# Altium integrated library Linear Technology Power Management System Supervisor, Monitor and Control.IntLib: 1611 symbols (part 72 of 100)
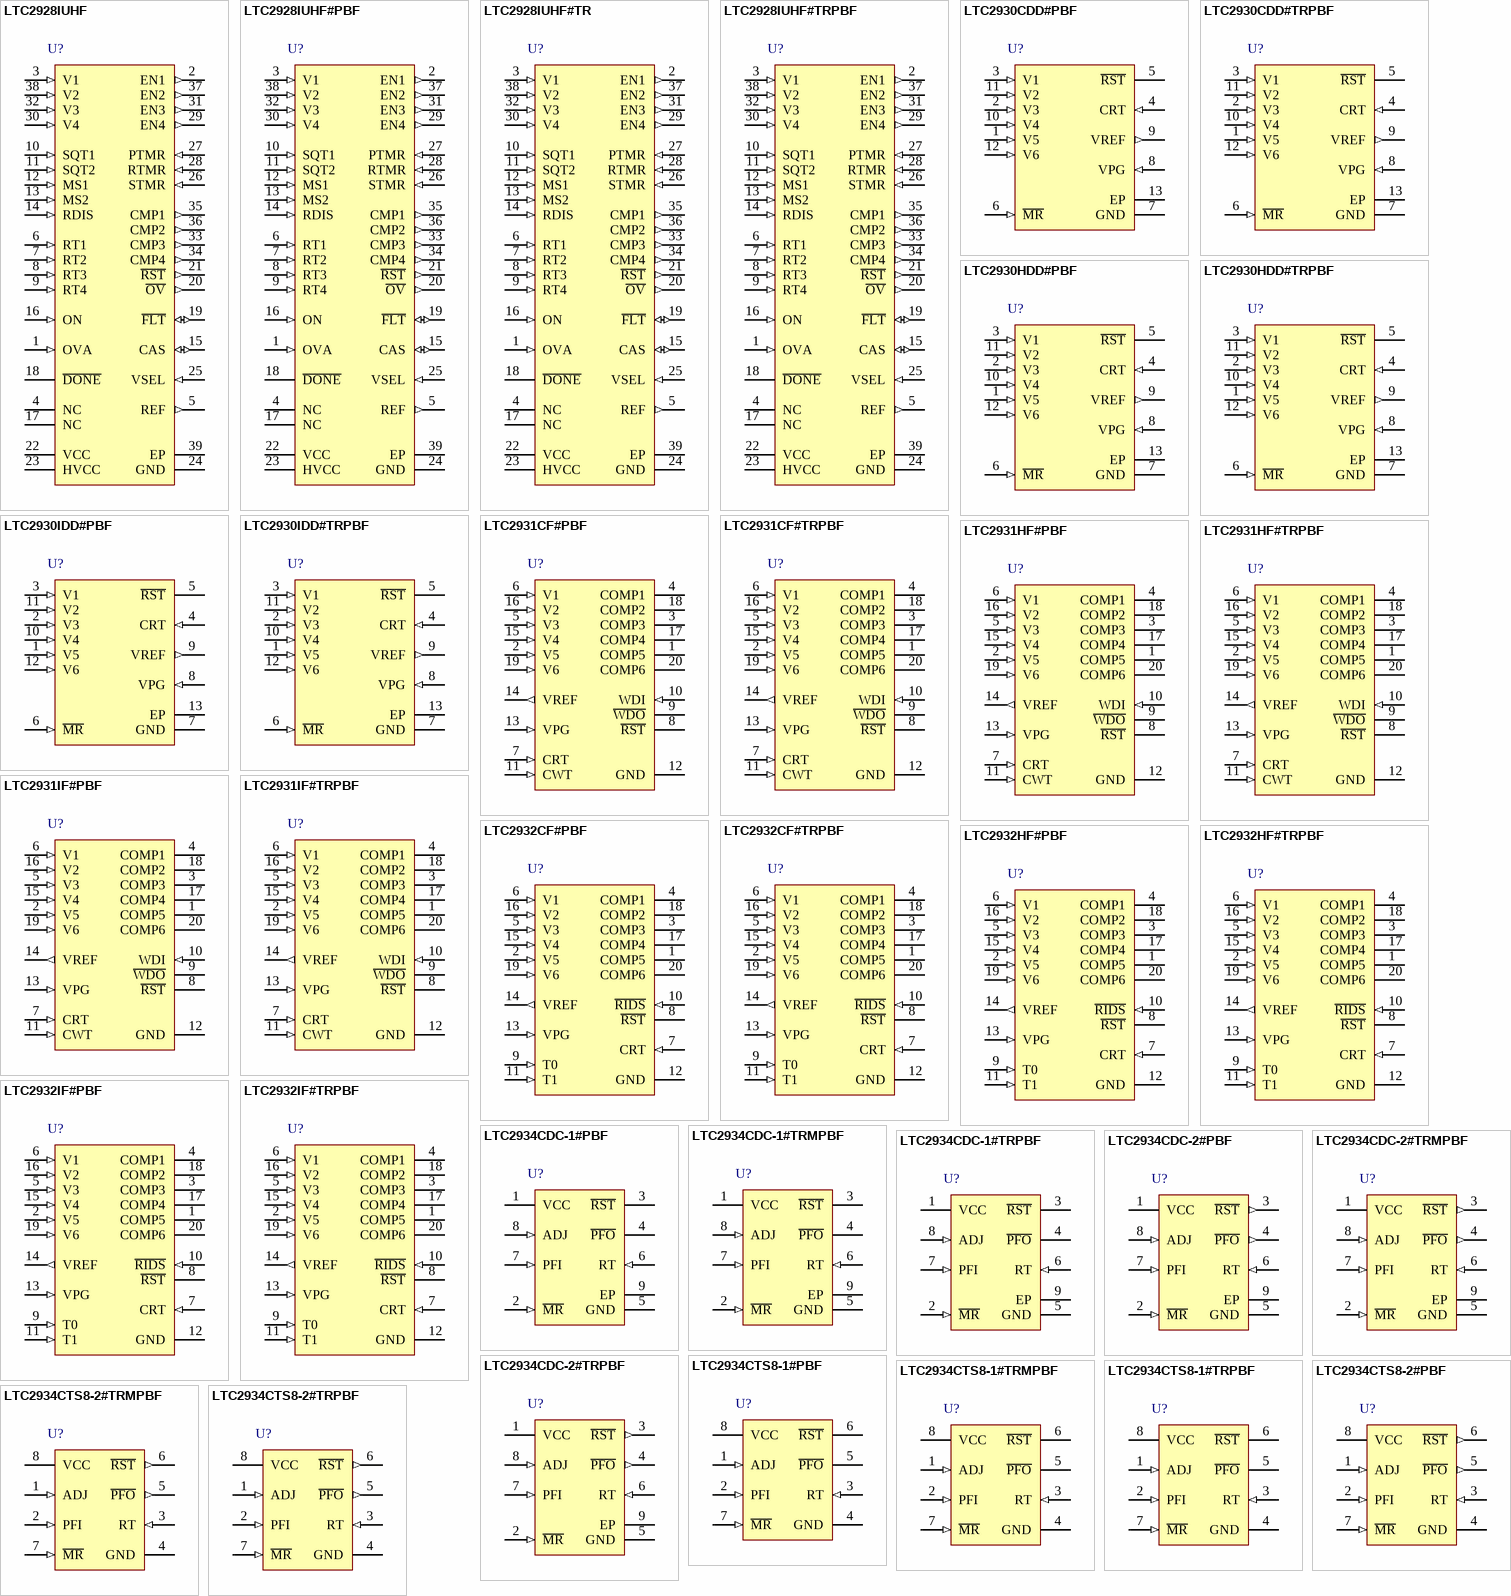
[diagram p116: symbols LTC2928IUHF to LTC2934CTS8-2#TRPBF]

## LTC2928IUHF#TRPBF
designator U?
Multichannel Power Supply Sequencer and Supervisor, 38-pin QFN (UHF-38), -40 to 85 degC, Pb-Free, Tape and Reel; Manufacturer: Linear Technology; PartNumber: LTC2928IUHF#TRPBF; Number of Supplies(#): 4; PackageVersion: Rev. C, 06/2010; PackageReference: UHF-38; PackageDescription: 38-Pin Plastic QFN, Body 7 x 5 mm, Pitch 0.5 mm; Supplier 1: Digi-Key; Supplier Part Number 1: LTC2928IUHF#TRPBF-ND; Supplier 2: Newark; Supplier Part Number 2: 56M7168; Packing: Tape and Reel; RoHS: TRUE; Mounting Technology: Surface Mount; Code_JEDEC: MO-220; ComponentLink1Description: Manufacturer URL; ComponentLink1URL: http://www.linear.com/; ComponentLink2Description: Datasheet; ComponentLink2URL: http://cds.linear.com/docs/en/datasheet/2928f.pdf; ComponentLink3Description: Package Specification; ComponentLink3URL: http://cds.linear.com/docs/en/packaging/QFN_38_05-08-1701.pdf
footprint LT-UHF-38_N (QFN, 38-Leads, Body 7.1x5.1mm, Pitch 0.5mm, Thermal Pad 3.15x5.15mm, IPC Medium Density)
footprint LT-UHF-38_L (QFN, 38-Leads, Body 7.1x5.1mm, Pitch 0.5mm, Thermal Pad 3.15x5.15mm, IPC High Density)
footprint LT-UHF-38_M (QFN, 38-Leads, Body 7.1x5.1mm, Pitch 0.5mm, Thermal Pad 3.15x5.15mm, IPC Low Density)
pins: 1 OVA (in) "Over Voltage Adjust Input. After configuring the undervoltage thresholds, bias this input to set the overvoltage threshold for all positive supplies. Leave the pin floating to set an overvoltage threshold approximately 32% (See Datasheet)", 2 EN1 (out) "Enable Output. Connect these outputs to a power supply shutdown input or an external N-channel MOSFET gate for the supply to be sequenced. When enabled, each output is connected to an internal charge pumped supply (nominally (See Datasheet)", 3 V1 (in) "Voltage Monitor Input. Connect these high impedance inputs to external resistive dividers between each monitored power supply and ground (or REF for negative supplies monitored on V1). See Applications Information for (See Datasheet)", 4 NC "No Connect. Unconnected pins.", 5 REF (out) "Reference Output. REF is used to offset negative supplies connected through resistance to V1. The reference will move during sequence-up and sequence-down operation to effect the selected thresholds. The buffered reference (See Datasheet)", 6 RT1 (in) "Resistive Time Position Configuration Input. Place a single resistor from VCC to each input to select one of eight time positions in which to turn-on or turn-off each enable output (see Application Information for RT table). (See Datasheet)", 7 RT2 (in) "Resistive Time Position Configuration Input. Place a single resistor from VCC to each input to select one of eight time positions in which to turn-on or turn-off each enable output (see Application Information for RT table). (See Datasheet)", 8 RT3 (in) "Resistive Time Position Configuration Input. Place a single resistor from VCC to each input to select one of eight time positions in which to turn-on or turn-off each enable output (see Application Information for RT table). (See Datasheet)", 9 RT4 (in) "Resistive Time Position Configuration Input. Place a single resistor from VCC to each input to select one of eight time positions in which to turn-on or turn-off each enable output (see Application Information for RT table). (See Datasheet)", 10 SQT1 (in) "Sequencing Threshold Three State Configuration Input. Select sequencing thresholds as a percentage of the 0.5V supply monitor threshold for positive supplies and as a percentage of REF for negative supplies. For (See Datasheet)", 11 SQT2 (in) "Sequencing Threshold Three State Configuration Input. Select sequencing thresholds as a percentage of the 0.5V supply monitor threshold for positive supplies and as a percentage of REF for negative supplies. For (See Datasheet)", 12 MS1 (in) "Master/Slave Three State Configuration Input. Depending on the application, select each LTC2928 as a master or slave part and whether or not the part is designated as the first part in a cascade application. The (See Datasheet)", 13 MS2 (in) "Master/Slave Three State Configuration Input. Depending on the application, select each LTC2928 as a master or slave part and whether or not the part is designated as the first part in a cascade application. The (See Datasheet)", 14 RDIS (in) "Reset Disable Three State Input. Typically used for supply margining applications. Pull RDIS high or low to force R\S\T\ high. Leave the RDIS input open to allow R\S\T\ to operate normally.", 15 CAS (io) "Cascade Input/Output. Connect the cascade pin between a master and one or more slave devices to increase the number of supplies that can be sequenced per time position. See Applications Information for details. Do not add (See Datasheet)", 16 ON (in) "Sequence Up/Down Input. A voltage transition above 1V starts the sequence-up phase. A voltage transition below 0.97V starts the sequence-down phase. An ON transition applied during a sequence-up (or down) phase is treated as (See Datasheet)", 17 NC "No Connect. Unconnected pins.", 18 ~{DONE} (hiz) "Sequence Done Output. The last (or only) LTC2928 must have D\O\N\E\ pulled high with an external resistor to VCC (3.3k 5% recommended). The LTC2928 floats D\O\N\E\ until the completion of a sequence-up operation when it is (See Datasheet)", 19 ~{FLT} (io) "Fault Input/Output. Pull FLT high with an external resistor (10k recommended). The LTC2928 will pull FLT low if an internal fault condition is detected (see Applications Information for details). An external signal such as (See Datasheet)", 20 ~{OV} (out) "Overvoltage Output. Pulls low when any positive supply exceeds its configured overvoltage threshold. O\V\ remains low until all positive supplies have remained below the overvoltage threshold for a time equal to the (See Datasheet)", 21 ~{RST} (out) "Reset Output. If any supply is below its undervoltage threshold, R\S\T\ pulls low. R\S\T\ pulls high after all supplies are above their undervoltage threshold for the configured delay time (configure delay time using the (See Datasheet)", 22 VCC (power) "Power Supply Input/Output. All internal circuits are powered from VCC. Bypass VCC with at least 0.1uF to ground in close proximity to this pin (1uF minimum when using HVCC).", 23 HVCC (power) "High Voltage (7.2V to 16.5V) Power Supply Input. Bypass HVCC with at least 0.1uF to ground in close proximity to this pin. The internal HVCC regulator provides a regulated 3.3V to VCC. VCC may be used to power external (See Datasheet)", 24 GND (power) "Device ground.", 25 VSEL (in) "Voltage Monitor Select Input. Tie to ground to select four positive inputs. Tie to VCC for three positive and one negative adjustable input. Negative supplies are monitored on the V1 input. See Applications Information for (See Datasheet)", 26 STMR (in) "Sequence Timer. Attach an external capacitor to ground to set the adjacent time-position delay between sequenced supplies. For supplies in adjacent time positions, this delay resides between the previous supply crossing its (See Datasheet)", 27 PTMR (in) "Power Good Timer. Attach an external capacitor to ground to set the maximum time allowed for all supplies to reach their configured undervoltage threshold during sequence-up phase (or all supplies below their sequence down (See Datasheet)", 28 RTMR (in) "Reset Timer. Attach an external capacitor to ground to set a reset delay time of 4000ms/uF. Floating RTMR generates a minimum delay of approximately 50us. A 0.047uF capacitor will generate a 190ms delay time.", 29 EN4 (out) "Enable Output. Connect these outputs to a power supply shutdown input or an external N-channel MOSFET gate for the supply to be sequenced. When enabled, each output is connected to an internal charge pumped supply (nominally (See Datasheet)", 30 V4 (in) "Voltage Monitor Input. Connect these high impedance inputs to external resistive dividers between each monitored power supply and ground (or REF for negative supplies monitored on V1). See Applications Information for (See Datasheet)", 31 EN3 (out) "Enable Output. Connect these outputs to a power supply shutdown input or an external N-channel MOSFET gate for the supply to be sequenced. When enabled, each output is connected to an internal charge pumped supply (nominally (See Datasheet)", 32 V3 (in) "Voltage Monitor Input. Connect these high impedance inputs to external resistive dividers between each monitored power supply and ground (or REF for negative supplies monitored on V1). See Applications Information for (See Datasheet)", 33 CMP3 (out) "Comparator and/or Fault Status Output. The CMP outputs have a weak internal pull-up to VCC and may be pulled above VCC using an external pull-up. During sequence-up or sequence-down operation, all comparator outputs are low. (See Datasheet)", 34 CMP4 (out) "Comparator and/or Fault Status Output. The CMP outputs have a weak internal pull-up to VCC and may be pulled above VCC using an external pull-up. During sequence-up or sequence-down operation, all comparator outputs are low. (See Datasheet)", 35 CMP1 (out) "Comparator and/or Fault Status Output. The CMP outputs have a weak internal pull-up to VCC and may be pulled above VCC using an external pull-up. During sequence-up or sequence-down operation, all comparator outputs are low. (See Datasheet)", 36 CMP2 (out) "Comparator and/or Fault Status Output. The CMP outputs have a weak internal pull-up to VCC and may be pulled above VCC using an external pull-up. During sequence-up or sequence-down operation, all comparator outputs are low. (See Datasheet)", 37 EN2 (out) "Enable Output. Connect these outputs to a power supply shutdown input or an external N-channel MOSFET gate for the supply to be sequenced. When enabled, each output is connected to an internal charge pumped supply (nominally (See Datasheet)", 38 V2 (in) "Voltage Monitor Input. Connect these high impedance inputs to external resistive dividers between each monitored power supply and ground (or REF for negative supplies monitored on V1). See Applications Information for (See Datasheet)", 39 EP (power) "Exposed pad may be left floating or connected to device ground."

## LTC2930CDD#PBF
designator U?
Configurable Six Supply Monitor with Adjustable Reset Timer and Supply Tolerance, 12-pin SON (DD-12), 0 to 70 degC, Pb-Free; Manufacturer: Linear Technology; PartNumber: LTC2930CDD#PBF; Number of Supplies(#): 6; DatasheetVersion: Rev. A; PackageVersion: Rev. A, 06/2010; PackageReference: DD-12; PackageDescription: 12-Pin Plastic DFN, Body 3 x 3 mm, Pitch 0.45 mm; Supplier 1: Digi-Key; Supplier Part Number 1: LTC2930CDD#PBF-ND; Supplier 2: Farnell; Supplier Part Number 2: 2295444; Supplier 3: Newark; Supplier Part Number 3: 79M3531; RoHS: TRUE; Mounting Technology: Surface Mount; ComponentLink1Description: Manufacturer URL; ComponentLink1URL: http://www.linear.com/; ComponentLink2Description: Datasheet; ComponentLink2URL: http://cds.linear.com/docs/en/datasheet/2930fa.pdf; ComponentLink3Description: Package Specification; ComponentLink3URL: http://cds.linear.com/docs/en/packaging/DFN_12_05-08-1725.pdf
footprint LT-DD-12_V (SON, 12-Leads, Body 3x3mm, Pitch 0.45mm, Thermal Pad 2.38x1.65mm)
pins: 1 V5 (in) "Adjustable Voltage Input 5. High impedance comparator input with 0.5V typical threshold. See Applications Information for details. Tie to V1 if unused.", 2 V3 (in) "Voltage Input 3. Select from 2.5V, 1.8V, 1.5V, or ADJ. See Applications Information for details. Tie to V1 if unused.", 3 V1 (in) "Voltage Input 1. Select from 5V or 3.3V. See Applications Information for details. The greater of V1 or V2 is also VCC for the device. Bypass this pin to ground with a 0.1uF (or greater) capacitor.", 4 CRT (in) "Reset Timeout Capacitor. Attach an external capacitor (CRT) to GND to set a reset timeout of 2ms/nF. Leaving the pin open generates a minimum delay of approximately 25us. A 47nF capacitor generates a 94ms reset delay time.", 5 ~{RST} (oc) "Reset Output. Logic output with weak 6uA pull-up to V2. Pulls low when any voltage input is below the reset threshold and held low for the configured delay time after all voltage inputs are above threshold. Use an external (See Datasheet)", 6 ~{MR} (in) "Manual Reset Input. A logic low on this pin pulls R\S\T\ low. When the M\R\ pin returns high, R\S\T\ returns high after the configured reset timeout if all six voltage inputs are above threshold. A weak internal pull-up (See Datasheet)", 7 GND (power) "Ground.", 8 VPG (in) "Threshold Select Input. Connect to an external 1% resistive divider between VREF and GND to select 1 of 16 combinations and/or +/-adjustable voltage thresholds (See Table 1). Do not add capacitance on the VPG pin.", 9 VREF (out) "Buffered Reference Voltage Output. A 1.210V nominal reference used for the mode selection voltage (VPG) and for the offset of negative adjustable applications. The buffered reference can source and sink up to 1mA. The (See Datasheet)", 10 V4 (in) "Voltage Input 4. Select from 1.8V, 1.5V, ADJ or -ADJ. See Applications Information for details. Tie to V1 if unused.", 11 V2 (in) "Voltage Input 2. Select from 3.3V, 3V or 2.5V. See Applications Information for details. The greater of V1, V2 is also VCC for the device. Bypass this pin to ground with a 0.1uF (or greater) capacitor. R\S\T\ is weakly (See Datasheet)", 12 V6 (in) "Adjustable Voltage Input 6. High impedance comparator input with 0.5V typical threshold. See Applications Information for details. Tie to V1 if unused.", 13 EP (power) "Exposed pad may be left open or connected to device ground."

## LTC2930CDD#TRPBF
designator U?
Configurable Six Supply Monitor with Adjustable Reset Timer and Supply Tolerance, 12-pin SON (DD-12), 0 to 70 degC, Pb-Free, Tape and Reel; Manufacturer: Linear Technology; PartNumber: LTC2930CDD#TRPBF; Number of Supplies(#): 6; DatasheetVersion: Rev. A; PackageVersion: Rev. A, 06/2010; PackageReference: DD-12; PackageDescription: 12-Pin Plastic DFN, Body 3 x 3 mm, Pitch 0.45 mm; Supplier 1: Digi-Key; Supplier Part Number 1: LTC2930CDD#TRPBF-ND; Packing: Tape and Reel; RoHS: TRUE; Mounting Technology: Surface Mount; ComponentLink1Description: Manufacturer URL; ComponentLink1URL: http://www.linear.com/; ComponentLink2Description: Datasheet; ComponentLink2URL: http://cds.linear.com/docs/en/datasheet/2930fa.pdf; ComponentLink3Description: Package Specification; ComponentLink3URL: http://cds.linear.com/docs/en/packaging/DFN_12_05-08-1725.pdf
footprint LT-DD-12_V (SON, 12-Leads, Body 3x3mm, Pitch 0.45mm, Thermal Pad 2.38x1.65mm)
pins: 1 V5 (in) "Adjustable Voltage Input 5. High impedance comparator input with 0.5V typical threshold. See Applications Information for details. Tie to V1 if unused.", 2 V3 (in) "Voltage Input 3. Select from 2.5V, 1.8V, 1.5V, or ADJ. See Applications Information for details. Tie to V1 if unused.", 3 V1 (in) "Voltage Input 1. Select from 5V or 3.3V. See Applications Information for details. The greater of V1 or V2 is also VCC for the device. Bypass this pin to ground with a 0.1uF (or greater) capacitor.", 4 CRT (in) "Reset Timeout Capacitor. Attach an external capacitor (CRT) to GND to set a reset timeout of 2ms/nF. Leaving the pin open generates a minimum delay of approximately 25us. A 47nF capacitor generates a 94ms reset delay time.", 5 ~{RST} (oc) "Reset Output. Logic output with weak 6uA pull-up to V2. Pulls low when any voltage input is below the reset threshold and held low for the configured delay time after all voltage inputs are above threshold. Use an external (See Datasheet)", 6 ~{MR} (in) "Manual Reset Input. A logic low on this pin pulls R\S\T\ low. When the M\R\ pin returns high, R\S\T\ returns high after the configured reset timeout if all six voltage inputs are above threshold. A weak internal pull-up (See Datasheet)", 7 GND (power) "Ground.", 8 VPG (in) "Threshold Select Input. Connect to an external 1% resistive divider between VREF and GND to select 1 of 16 combinations and/or +/-adjustable voltage thresholds (See Table 1). Do not add capacitance on the VPG pin.", 9 VREF (out) "Buffered Reference Voltage Output. A 1.210V nominal reference used for the mode selection voltage (VPG) and for the offset of negative adjustable applications. The buffered reference can source and sink up to 1mA. The (See Datasheet)", 10 V4 (in) "Voltage Input 4. Select from 1.8V, 1.5V, ADJ or -ADJ. See Applications Information for details. Tie to V1 if unused.", 11 V2 (in) "Voltage Input 2. Select from 3.3V, 3V or 2.5V. See Applications Information for details. The greater of V1, V2 is also VCC for the device. Bypass this pin to ground with a 0.1uF (or greater) capacitor. R\S\T\ is weakly (See Datasheet)", 12 V6 (in) "Adjustable Voltage Input 6. High impedance comparator input with 0.5V typical threshold. See Applications Information for details. Tie to V1 if unused.", 13 EP (power) "Exposed pad may be left open or connected to device ground."

## LTC2930HDD#PBF
designator U?
Configurable Six Supply Monitor with Adjustable Reset Timer and Supply Tolerance, 12-pin SON (DD-12), -40 to 125 degC, Pb-Free; Manufacturer: Linear Technology; PartNumber: LTC2930HDD#PBF; Number of Supplies(#): 6; DatasheetVersion: Rev. A; PackageVersion: Rev. A, 06/2010; PackageReference: DD-12; PackageDescription: 12-Pin Plastic DFN, Body 3 x 3 mm, Pitch 0.45 mm; Supplier 1: Digi-Key; Supplier Part Number 1: LTC2930HDD#PBF-ND; Supplier 2: Farnell; Supplier Part Number 2: 2295445; Supplier 3: Newark; Supplier Part Number 3: 79M3533; RoHS: TRUE; Mounting Technology: Surface Mount; ComponentLink1Description: Manufacturer URL; ComponentLink1URL: http://www.linear.com/; ComponentLink2Description: Datasheet; ComponentLink2URL: http://cds.linear.com/docs/en/datasheet/2930fa.pdf; ComponentLink3Description: Package Specification; ComponentLink3URL: http://cds.linear.com/docs/en/packaging/DFN_12_05-08-1725.pdf
footprint LT-DD-12_V (SON, 12-Leads, Body 3x3mm, Pitch 0.45mm, Thermal Pad 2.38x1.65mm)
pins: 1 V5 (in) "Adjustable Voltage Input 5. High impedance comparator input with 0.5V typical threshold. See Applications Information for details. Tie to V1 if unused.", 2 V3 (in) "Voltage Input 3. Select from 2.5V, 1.8V, 1.5V, or ADJ. See Applications Information for details. Tie to V1 if unused.", 3 V1 (in) "Voltage Input 1. Select from 5V or 3.3V. See Applications Information for details. The greater of V1 or V2 is also VCC for the device. Bypass this pin to ground with a 0.1uF (or greater) capacitor.", 4 CRT (in) "Reset Timeout Capacitor. Attach an external capacitor (CRT) to GND to set a reset timeout of 2ms/nF. Leaving the pin open generates a minimum delay of approximately 25us. A 47nF capacitor generates a 94ms reset delay time.", 5 ~{RST} (oc) "Reset Output. Logic output with weak 6uA pull-up to V2. Pulls low when any voltage input is below the reset threshold and held low for the configured delay time after all voltage inputs are above threshold. Use an external (See Datasheet)", 6 ~{MR} (in) "Manual Reset Input. A logic low on this pin pulls R\S\T\ low. When the M\R\ pin returns high, R\S\T\ returns high after the configured reset timeout if all six voltage inputs are above threshold. A weak internal pull-up (See Datasheet)", 7 GND (power) "Ground.", 8 VPG (in) "Threshold Select Input. Connect to an external 1% resistive divider between VREF and GND to select 1 of 16 combinations and/or +/-adjustable voltage thresholds (See Table 1). Do not add capacitance on the VPG pin.", 9 VREF (out) "Buffered Reference Voltage Output. A 1.210V nominal reference used for the mode selection voltage (VPG) and for the offset of negative adjustable applications. The buffered reference can source and sink up to 1mA. The (See Datasheet)", 10 V4 (in) "Voltage Input 4. Select from 1.8V, 1.5V, ADJ or -ADJ. See Applications Information for details. Tie to V1 if unused.", 11 V2 (in) "Voltage Input 2. Select from 3.3V, 3V or 2.5V. See Applications Information for details. The greater of V1, V2 is also VCC for the device. Bypass this pin to ground with a 0.1uF (or greater) capacitor. R\S\T\ is weakly (See Datasheet)", 12 V6 (in) "Adjustable Voltage Input 6. High impedance comparator input with 0.5V typical threshold. See Applications Information for details. Tie to V1 if unused.", 13 EP (power) "Exposed pad may be left open or connected to device ground."

## LTC2930HDD#TRPBF
designator U?
Configurable Six Supply Monitor with Adjustable Reset Timer and Supply Tolerance, 12-pin SON (DD-12), -40 to 125 degC, Pb-Free, Tape and Reel; Manufacturer: Linear Technology; PartNumber: LTC2930HDD#TRPBF; Number of Supplies(#): 6; DatasheetVersion: Rev. A; PackageVersion: Rev. A, 06/2010; PackageReference: DD-12; PackageDescription: 12-Pin Plastic DFN, Body 3 x 3 mm, Pitch 0.45 mm; Supplier 1: Digi-Key; Supplier Part Number 1: LTC2930HDD#TRPBF-ND; Packing: Tape and Reel; RoHS: TRUE; Mounting Technology: Surface Mount; ComponentLink1Description: Manufacturer URL; ComponentLink1URL: http://www.linear.com/; ComponentLink2Description: Datasheet; ComponentLink2URL: http://cds.linear.com/docs/en/datasheet/2930fa.pdf; ComponentLink3Description: Package Specification; ComponentLink3URL: http://cds.linear.com/docs/en/packaging/DFN_12_05-08-1725.pdf
footprint LT-DD-12_V (SON, 12-Leads, Body 3x3mm, Pitch 0.45mm, Thermal Pad 2.38x1.65mm)
pins: 1 V5 (in) "Adjustable Voltage Input 5. High impedance comparator input with 0.5V typical threshold. See Applications Information for details. Tie to V1 if unused.", 2 V3 (in) "Voltage Input 3. Select from 2.5V, 1.8V, 1.5V, or ADJ. See Applications Information for details. Tie to V1 if unused.", 3 V1 (in) "Voltage Input 1. Select from 5V or 3.3V. See Applications Information for details. The greater of V1 or V2 is also VCC for the device. Bypass this pin to ground with a 0.1uF (or greater) capacitor.", 4 CRT (in) "Reset Timeout Capacitor. Attach an external capacitor (CRT) to GND to set a reset timeout of 2ms/nF. Leaving the pin open generates a minimum delay of approximately 25us. A 47nF capacitor generates a 94ms reset delay time.", 5 ~{RST} (oc) "Reset Output. Logic output with weak 6uA pull-up to V2. Pulls low when any voltage input is below the reset threshold and held low for the configured delay time after all voltage inputs are above threshold. Use an external (See Datasheet)", 6 ~{MR} (in) "Manual Reset Input. A logic low on this pin pulls R\S\T\ low. When the M\R\ pin returns high, R\S\T\ returns high after the configured reset timeout if all six voltage inputs are above threshold. A weak internal pull-up (See Datasheet)", 7 GND (power) "Ground.", 8 VPG (in) "Threshold Select Input. Connect to an external 1% resistive divider between VREF and GND to select 1 of 16 combinations and/or +/-adjustable voltage thresholds (See Table 1). Do not add capacitance on the VPG pin.", 9 VREF (out) "Buffered Reference Voltage Output. A 1.210V nominal reference used for the mode selection voltage (VPG) and for the offset of negative adjustable applications. The buffered reference can source and sink up to 1mA. The (See Datasheet)", 10 V4 (in) "Voltage Input 4. Select from 1.8V, 1.5V, ADJ or -ADJ. See Applications Information for details. Tie to V1 if unused.", 11 V2 (in) "Voltage Input 2. Select from 3.3V, 3V or 2.5V. See Applications Information for details. The greater of V1, V2 is also VCC for the device. Bypass this pin to ground with a 0.1uF (or greater) capacitor. R\S\T\ is weakly (See Datasheet)", 12 V6 (in) "Adjustable Voltage Input 6. High impedance comparator input with 0.5V typical threshold. See Applications Information for details. Tie to V1 if unused.", 13 EP (power) "Exposed pad may be left open or connected to device ground."

## LTC2930IDD#PBF
designator U?
Configurable Six Supply Monitor with Adjustable Reset Timer and Supply Tolerance, 12-pin SON (DD-12), -40 to 85 degC, Pb-Free; Manufacturer: Linear Technology; PartNumber: LTC2930IDD#PBF; Number of Supplies(#): 6; DatasheetVersion: Rev. A; PackageVersion: Rev. A, 06/2010; PackageReference: DD-12; PackageDescription: 12-Pin Plastic DFN, Body 3 x 3 mm, Pitch 0.45 mm; Supplier 1: Digi-Key; Supplier Part Number 1: LTC2930IDD#PBF-ND; Supplier 2: Farnell; Supplier Part Number 2: 2295446; Supplier 3: Newark; Supplier Part Number 3: 79M3535; RoHS: TRUE; Mounting Technology: Surface Mount; ComponentLink1Description: Manufacturer URL; ComponentLink1URL: http://www.linear.com/; ComponentLink2Description: Datasheet; ComponentLink2URL: http://cds.linear.com/docs/en/datasheet/2930fa.pdf; ComponentLink3Description: Package Specification; ComponentLink3URL: http://cds.linear.com/docs/en/packaging/DFN_12_05-08-1725.pdf
footprint LT-DD-12_V (SON, 12-Leads, Body 3x3mm, Pitch 0.45mm, Thermal Pad 2.38x1.65mm)
pins: 1 V5 (in) "Adjustable Voltage Input 5. High impedance comparator input with 0.5V typical threshold. See Applications Information for details. Tie to V1 if unused.", 2 V3 (in) "Voltage Input 3. Select from 2.5V, 1.8V, 1.5V, or ADJ. See Applications Information for details. Tie to V1 if unused.", 3 V1 (in) "Voltage Input 1. Select from 5V or 3.3V. See Applications Information for details. The greater of V1 or V2 is also VCC for the device. Bypass this pin to ground with a 0.1uF (or greater) capacitor.", 4 CRT (in) "Reset Timeout Capacitor. Attach an external capacitor (CRT) to GND to set a reset timeout of 2ms/nF. Leaving the pin open generates a minimum delay of approximately 25us. A 47nF capacitor generates a 94ms reset delay time.", 5 ~{RST} (oc) "Reset Output. Logic output with weak 6uA pull-up to V2. Pulls low when any voltage input is below the reset threshold and held low for the configured delay time after all voltage inputs are above threshold. Use an external (See Datasheet)", 6 ~{MR} (in) "Manual Reset Input. A logic low on this pin pulls R\S\T\ low. When the M\R\ pin returns high, R\S\T\ returns high after the configured reset timeout if all six voltage inputs are above threshold. A weak internal pull-up (See Datasheet)", 7 GND (power) "Ground.", 8 VPG (in) "Threshold Select Input. Connect to an external 1% resistive divider between VREF and GND to select 1 of 16 combinations and/or +/-adjustable voltage thresholds (See Table 1). Do not add capacitance on the VPG pin.", 9 VREF (out) "Buffered Reference Voltage Output. A 1.210V nominal reference used for the mode selection voltage (VPG) and for the offset of negative adjustable applications. The buffered reference can source and sink up to 1mA. The (See Datasheet)", 10 V4 (in) "Voltage Input 4. Select from 1.8V, 1.5V, ADJ or -ADJ. See Applications Information for details. Tie to V1 if unused.", 11 V2 (in) "Voltage Input 2. Select from 3.3V, 3V or 2.5V. See Applications Information for details. The greater of V1, V2 is also VCC for the device. Bypass this pin to ground with a 0.1uF (or greater) capacitor. R\S\T\ is weakly (See Datasheet)", 12 V6 (in) "Adjustable Voltage Input 6. High impedance comparator input with 0.5V typical threshold. See Applications Information for details. Tie to V1 if unused.", 13 EP (power) "Exposed pad may be left open or connected to device ground."

## LTC2930IDD#TRPBF
designator U?
Configurable Six Supply Monitor with Adjustable Reset Timer and Supply Tolerance, 12-pin SON (DD-12), -40 to 85 degC, Pb-Free, Tape and Reel; Manufacturer: Linear Technology; PartNumber: LTC2930IDD#TRPBF; Number of Supplies(#): 6; DatasheetVersion: Rev. A; PackageVersion: Rev. A, 06/2010; PackageReference: DD-12; PackageDescription: 12-Pin Plastic DFN, Body 3 x 3 mm, Pitch 0.45 mm; Supplier 1: Digi-Key; Supplier Part Number 1: LTC2930IDD#TRPBF-ND; Packing: Tape and Reel; RoHS: TRUE; Mounting Technology: Surface Mount; ComponentLink1Description: Manufacturer URL; ComponentLink1URL: http://www.linear.com/; ComponentLink2Description: Datasheet; ComponentLink2URL: http://cds.linear.com/docs/en/datasheet/2930fa.pdf; ComponentLink3Description: Package Specification; ComponentLink3URL: http://cds.linear.com/docs/en/packaging/DFN_12_05-08-1725.pdf
footprint LT-DD-12_V (SON, 12-Leads, Body 3x3mm, Pitch 0.45mm, Thermal Pad 2.38x1.65mm)
pins: 1 V5 (in) "Adjustable Voltage Input 5. High impedance comparator input with 0.5V typical threshold. See Applications Information for details. Tie to V1 if unused.", 2 V3 (in) "Voltage Input 3. Select from 2.5V, 1.8V, 1.5V, or ADJ. See Applications Information for details. Tie to V1 if unused.", 3 V1 (in) "Voltage Input 1. Select from 5V or 3.3V. See Applications Information for details. The greater of V1 or V2 is also VCC for the device. Bypass this pin to ground with a 0.1uF (or greater) capacitor.", 4 CRT (in) "Reset Timeout Capacitor. Attach an external capacitor (CRT) to GND to set a reset timeout of 2ms/nF. Leaving the pin open generates a minimum delay of approximately 25us. A 47nF capacitor generates a 94ms reset delay time.", 5 ~{RST} (oc) "Reset Output. Logic output with weak 6uA pull-up to V2. Pulls low when any voltage input is below the reset threshold and held low for the configured delay time after all voltage inputs are above threshold. Use an external (See Datasheet)", 6 ~{MR} (in) "Manual Reset Input. A logic low on this pin pulls R\S\T\ low. When the M\R\ pin returns high, R\S\T\ returns high after the configured reset timeout if all six voltage inputs are above threshold. A weak internal pull-up (See Datasheet)", 7 GND (power) "Ground.", 8 VPG (in) "Threshold Select Input. Connect to an external 1% resistive divider between VREF and GND to select 1 of 16 combinations and/or +/-adjustable voltage thresholds (See Table 1). Do not add capacitance on the VPG pin.", 9 VREF (out) "Buffered Reference Voltage Output. A 1.210V nominal reference used for the mode selection voltage (VPG) and for the offset of negative adjustable applications. The buffered reference can source and sink up to 1mA. The (See Datasheet)", 10 V4 (in) "Voltage Input 4. Select from 1.8V, 1.5V, ADJ or -ADJ. See Applications Information for details. Tie to V1 if unused.", 11 V2 (in) "Voltage Input 2. Select from 3.3V, 3V or 2.5V. See Applications Information for details. The greater of V1, V2 is also VCC for the device. Bypass this pin to ground with a 0.1uF (or greater) capacitor. R\S\T\ is weakly (See Datasheet)", 12 V6 (in) "Adjustable Voltage Input 6. High impedance comparator input with 0.5V typical threshold. See Applications Information for details. Tie to V1 if unused.", 13 EP (power) "Exposed pad may be left open or connected to device ground."

## LTC2931CF#PBF
designator U?
Configurable Six Supply Monitor with Adjustable Reset and Watchdog Timers, 20-pin SOP (F-20), 0 to 70 degC, Pb-Free; Manufacturer: Linear Technology; PartNumber: LTC2931CF#PBF; Number of Supplies(#): 6; DatasheetVersion: Rev. B; PackageVersion: Jun-10; PackageReference: F-20; PackageDescription: 20-Pin Plastic TSSOP, Body 6.5 x 4.4 mm, Pitch 0.65 mm; Supplier 1: Digi-Key; Supplier Part Number 1: LTC2931CF#PBF-ND; Supplier 2: Newark; Supplier Part Number 2: 75M4505; RoHS: TRUE; Mounting Technology: Surface Mount; ComponentLink1Description: Manufacturer URL; ComponentLink1URL: http://www.linear.com/; ComponentLink2Description: Datasheet; ComponentLink2URL: http://cds.linear.com/docs/en/datasheet/2931fb.pdf; ComponentLink3Description: Package Specification; ComponentLink3URL: http://cds.linear.com/docs/en/packaging/TSSOP_20_05-08-1650.pdf
footprint LT-F-20_N (SOP, 20-Leads, Body 6.6x4.5mm, Pitch 0.65mm, IPC Medium Density)
footprint LT-F-20_L (SOP, 20-Leads, Body 6.6x4.5mm, Pitch 0.65mm, IPC High Density)
footprint LT-F-20_M (SOP, 20-Leads, Body 6.6x4.5mm, Pitch 0.65mm, IPC Low Density)
pins: 1 COMP5 (oc) "Comparator Output 5. Real-time logic output with weak 6uA pull-up to V2. Pulls high when V5 is above reset threshold. May be pulled greater than V2 using external pull-up. Leave open if unused.", 2 V5 (in) "Adjustable Voltage Input 5. High impedance comparator input with 0.5V typical threshold. See Applications Information for details. Tie to V1 if unused.", 3 COMP3 (oc) "Comparator Output 3. Real-time logic output with weak 6uA pull-up to V2. Pulls high when V3 is above its reset threshold. May be pulled greater than V2 using external pull-up. Leave open if unused.", 4 COMP1 (oc) "Comparator Output 1. Real-time logic output with weak 6uA pull-up to V2. Pulls high when V1 is above its reset threshold. May be pulled greater than V2 using external pull-up. Leave open if unused.", 5 V3 (in) "Voltage Input 3. Select from 2.5V, 1.8V, 1.5V, or ADJ. See Applications Information for details. Tie to V1 if unused.", 6 V1 (in) "Voltage Input 1. Select from 5V or 3.3V. See Applications Information for details. The greater of V1 or V2 is also VCC for the device. Bypass this pin to ground with a 0.1uF (or greater) capacitor.", 7 CRT (in) "Reset Timeout Capacitor. Attach an external capacitor (CRT) to GND to set a reset timeout of 2ms/nF. Leaving the pin open generates a minimum delay of approximately 25us. A 47nF capacitor generates a 94ms reset delay time.", 8 ~{RST} (oc) "Reset Output. Logic output with weak 6uA pull-up to V2. Pulls low when any voltage input is below the reset threshold and held low for the configured delay time after all voltage inputs are above threshold. May be pulled (See Datasheet)", 9 ~{WDO} (oc) "Watchdog Output. Logic output with weak 6uA pull-up to V2. May be pulled greater than V2 using external pull-up. The watchdog timer is enabled when R\S\T\ is high. The watchdog output pulls low if the watchdog timer times (See Datasheet)", 10 WDI (in) "Watchdog Input. A logic input whose rising or falling edge must occur on this pin (while R\S\T\ is high) within the selected watchdog time-out period, prohibiting a high-to-low transition on the W\D\O\ pin. The capacitor (See Datasheet)", 11 CWT (in) "Watchdog Timeout Capacitor. Attach a capacitor (CWT) between CWT and GND to set a watchdog time-out period of 20ms/nF. Leaving the pin open generates a minimum timeout of approximately 200us. A 47nF capacitor generates a (See Datasheet)", 12 GND (power) "Ground.", 13 VPG (in) "Threshold Select Input. Connect to an external 1% resistive divider between VREF and GND to select 1 of 16 combinations and/or +/-adjustable voltage thresholds (See Table 1). Do not add capacitance on the VPG pin.", 14 VREF (out) "Buffered Reference Voltage Output. A 1.210V nominal reference used for the mode selection voltage (VPG) and for the offset of negative adjustable applications. The buffered reference can source and sink up to 1mA. The (See Datasheet)", 15 V4 (in) "Voltage Input 4. Select from 1.8V, 1.5V, ADJ or -ADJ. See Applications Information for details. Tie to V1 if unused and confi gured for positive voltage.", 16 V2 (in) "Voltage Input 2. Select from 3.3V, 3V or 2.5V. See Applications Information for details. The greater of V1, V2 is also VCC for the device. Bypass this pin to ground with a 0.1uF (or greater) capacitor. All status outputs are (See Datasheet)", 17 COMP4 (oc) "Comparator Output 4. Real-time logic output with weak 6uA pull-up to V2. Pulls high when V4 is above its reset threshold. May be pulled greater than V2 using external pull-up. Leave open if unused.", 18 COMP2 (oc) "Comparator Output 2. Real-time logic output with weak 6uA pull-up to V2. Pulls high when V2 is above its reset threshold. May be pulled greater than V2 using external pull-up. Leave open if unused.", 19 V6 (in) "Adjustable Voltage Input 6. High impedance comparator input with 0.5V typical threshold. See Applications Information for details. Tie to V1 if unused.", 20 COMP6 (oc) "Comparator Output 6. Real-time logic output with weak 6uA pull-up to V2. Pulls high when V6 is above its reset threshold. May be pulled greater than V2 using external pull-up. Leave open if unused."

## LTC2931CF#TRPBF
designator U?
Configurable Six Supply Monitor with Adjustable Reset and Watchdog Timers, 20-pin SOP (F-20), 0 to 70 degC, Pb-Free, Tape and Reel; Manufacturer: Linear Technology; PartNumber: LTC2931CF#TRPBF; Number of Supplies(#): 6; DatasheetVersion: Rev. B; PackageVersion: Jun-10; PackageReference: F-20; PackageDescription: 20-Pin Plastic TSSOP, Body 6.5 x 4.4 mm, Pitch 0.65 mm; Supplier 1: Digi-Key; Supplier Part Number 1: LTC2931CF#TRPBF-ND; Packing: Tape and Reel; RoHS: TRUE; Mounting Technology: Surface Mount; ComponentLink1Description: Manufacturer URL; ComponentLink1URL: http://www.linear.com/; ComponentLink2Description: Datasheet; ComponentLink2URL: http://cds.linear.com/docs/en/datasheet/2931fb.pdf; ComponentLink3Description: Package Specification; ComponentLink3URL: http://cds.linear.com/docs/en/packaging/TSSOP_20_05-08-1650.pdf
footprint LT-F-20_N (SOP, 20-Leads, Body 6.6x4.5mm, Pitch 0.65mm, IPC Medium Density)
footprint LT-F-20_L (SOP, 20-Leads, Body 6.6x4.5mm, Pitch 0.65mm, IPC High Density)
footprint LT-F-20_M (SOP, 20-Leads, Body 6.6x4.5mm, Pitch 0.65mm, IPC Low Density)
pins: 1 COMP5 (oc) "Comparator Output 5. Real-time logic output with weak 6uA pull-up to V2. Pulls high when V5 is above reset threshold. May be pulled greater than V2 using external pull-up. Leave open if unused.", 2 V5 (in) "Adjustable Voltage Input 5. High impedance comparator input with 0.5V typical threshold. See Applications Information for details. Tie to V1 if unused.", 3 COMP3 (oc) "Comparator Output 3. Real-time logic output with weak 6uA pull-up to V2. Pulls high when V3 is above its reset threshold. May be pulled greater than V2 using external pull-up. Leave open if unused.", 4 COMP1 (oc) "Comparator Output 1. Real-time logic output with weak 6uA pull-up to V2. Pulls high when V1 is above its reset threshold. May be pulled greater than V2 using external pull-up. Leave open if unused.", 5 V3 (in) "Voltage Input 3. Select from 2.5V, 1.8V, 1.5V, or ADJ. See Applications Information for details. Tie to V1 if unused.", 6 V1 (in) "Voltage Input 1. Select from 5V or 3.3V. See Applications Information for details. The greater of V1 or V2 is also VCC for the device. Bypass this pin to ground with a 0.1uF (or greater) capacitor.", 7 CRT (in) "Reset Timeout Capacitor. Attach an external capacitor (CRT) to GND to set a reset timeout of 2ms/nF. Leaving the pin open generates a minimum delay of approximately 25us. A 47nF capacitor generates a 94ms reset delay time.", 8 ~{RST} (oc) "Reset Output. Logic output with weak 6uA pull-up to V2. Pulls low when any voltage input is below the reset threshold and held low for the configured delay time after all voltage inputs are above threshold. May be pulled (See Datasheet)", 9 ~{WDO} (oc) "Watchdog Output. Logic output with weak 6uA pull-up to V2. May be pulled greater than V2 using external pull-up. The watchdog timer is enabled when R\S\T\ is high. The watchdog output pulls low if the watchdog timer times (See Datasheet)", 10 WDI (in) "Watchdog Input. A logic input whose rising or falling edge must occur on this pin (while R\S\T\ is high) within the selected watchdog time-out period, prohibiting a high-to-low transition on the W\D\O\ pin. The capacitor (See Datasheet)", 11 CWT (in) "Watchdog Timeout Capacitor. Attach a capacitor (CWT) between CWT and GND to set a watchdog time-out period of 20ms/nF. Leaving the pin open generates a minimum timeout of approximately 200us. A 47nF capacitor generates a (See Datasheet)", 12 GND (power) "Ground.", 13 VPG (in) "Threshold Select Input. Connect to an external 1% resistive divider between VREF and GND to select 1 of 16 combinations and/or +/-adjustable voltage thresholds (See Table 1). Do not add capacitance on the VPG pin.", 14 VREF (out) "Buffered Reference Voltage Output. A 1.210V nominal reference used for the mode selection voltage (VPG) and for the offset of negative adjustable applications. The buffered reference can source and sink up to 1mA. The (See Datasheet)", 15 V4 (in) "Voltage Input 4. Select from 1.8V, 1.5V, ADJ or -ADJ. See Applications Information for details. Tie to V1 if unused and confi gured for positive voltage.", 16 V2 (in) "Voltage Input 2. Select from 3.3V, 3V or 2.5V. See Applications Information for details. The greater of V1, V2 is also VCC for the device. Bypass this pin to ground with a 0.1uF (or greater) capacitor. All status outputs are (See Datasheet)", 17 COMP4 (oc) "Comparator Output 4. Real-time logic output with weak 6uA pull-up to V2. Pulls high when V4 is above its reset threshold. May be pulled greater than V2 using external pull-up. Leave open if unused.", 18 COMP2 (oc) "Comparator Output 2. Real-time logic output with weak 6uA pull-up to V2. Pulls high when V2 is above its reset threshold. May be pulled greater than V2 using external pull-up. Leave open if unused.", 19 V6 (in) "Adjustable Voltage Input 6. High impedance comparator input with 0.5V typical threshold. See Applications Information for details. Tie to V1 if unused.", 20 COMP6 (oc) "Comparator Output 6. Real-time logic output with weak 6uA pull-up to V2. Pulls high when V6 is above its reset threshold. May be pulled greater than V2 using external pull-up. Leave open if unused."

## LTC2931HF#PBF
designator U?
Configurable Six Supply Monitor with Adjustable Reset and Watchdog Timers, 20-pin SOP (F-20), -40 to 125 degC, Pb-Free; Manufacturer: Linear Technology; PartNumber: LTC2931HF#PBF; Number of Supplies(#): 6; DatasheetVersion: Rev. B; PackageVersion: Jun-10; PackageReference: F-20; PackageDescription: 20-Pin Plastic TSSOP, Body 6.5 x 4.4 mm, Pitch 0.65 mm; Supplier 1: Digi-Key; Supplier Part Number 1: LTC2931HF#PBF-ND; RoHS: TRUE; Mounting Technology: Surface Mount; ComponentLink1Description: Manufacturer URL; ComponentLink1URL: http://www.linear.com/; ComponentLink2Description: Datasheet; ComponentLink2URL: http://cds.linear.com/docs/en/datasheet/2931fb.pdf; ComponentLink3Description: Package Specification; ComponentLink3URL: http://cds.linear.com/docs/en/packaging/TSSOP_20_05-08-1650.pdf
footprint LT-F-20_N (SOP, 20-Leads, Body 6.6x4.5mm, Pitch 0.65mm, IPC Medium Density)
footprint LT-F-20_L (SOP, 20-Leads, Body 6.6x4.5mm, Pitch 0.65mm, IPC High Density)
footprint LT-F-20_M (SOP, 20-Leads, Body 6.6x4.5mm, Pitch 0.65mm, IPC Low Density)
pins: 1 COMP5 (oc) "Comparator Output 5. Real-time logic output with weak 6uA pull-up to V2. Pulls high when V5 is above reset threshold. May be pulled greater than V2 using external pull-up. Leave open if unused.", 2 V5 (in) "Adjustable Voltage Input 5. High impedance comparator input with 0.5V typical threshold. See Applications Information for details. Tie to V1 if unused.", 3 COMP3 (oc) "Comparator Output 3. Real-time logic output with weak 6uA pull-up to V2. Pulls high when V3 is above its reset threshold. May be pulled greater than V2 using external pull-up. Leave open if unused.", 4 COMP1 (oc) "Comparator Output 1. Real-time logic output with weak 6uA pull-up to V2. Pulls high when V1 is above its reset threshold. May be pulled greater than V2 using external pull-up. Leave open if unused.", 5 V3 (in) "Voltage Input 3. Select from 2.5V, 1.8V, 1.5V, or ADJ. See Applications Information for details. Tie to V1 if unused.", 6 V1 (in) "Voltage Input 1. Select from 5V or 3.3V. See Applications Information for details. The greater of V1 or V2 is also VCC for the device. Bypass this pin to ground with a 0.1uF (or greater) capacitor.", 7 CRT (in) "Reset Timeout Capacitor. Attach an external capacitor (CRT) to GND to set a reset timeout of 2ms/nF. Leaving the pin open generates a minimum delay of approximately 25us. A 47nF capacitor generates a 94ms reset delay time.", 8 ~{RST} (oc) "Reset Output. Logic output with weak 6uA pull-up to V2. Pulls low when any voltage input is below the reset threshold and held low for the configured delay time after all voltage inputs are above threshold. May be pulled (See Datasheet)", 9 ~{WDO} (oc) "Watchdog Output. Logic output with weak 6uA pull-up to V2. May be pulled greater than V2 using external pull-up. The watchdog timer is enabled when R\S\T\ is high. The watchdog output pulls low if the watchdog timer times (See Datasheet)", 10 WDI (in) "Watchdog Input. A logic input whose rising or falling edge must occur on this pin (while R\S\T\ is high) within the selected watchdog time-out period, prohibiting a high-to-low transition on the W\D\O\ pin. The capacitor (See Datasheet)", 11 CWT (in) "Watchdog Timeout Capacitor. Attach a capacitor (CWT) between CWT and GND to set a watchdog time-out period of 20ms/nF. Leaving the pin open generates a minimum timeout of approximately 200us. A 47nF capacitor generates a (See Datasheet)", 12 GND (power) "Ground.", 13 VPG (in) "Threshold Select Input. Connect to an external 1% resistive divider between VREF and GND to select 1 of 16 combinations and/or +/-adjustable voltage thresholds (See Table 1). Do not add capacitance on the VPG pin.", 14 VREF (out) "Buffered Reference Voltage Output. A 1.210V nominal reference used for the mode selection voltage (VPG) and for the offset of negative adjustable applications. The buffered reference can source and sink up to 1mA. The (See Datasheet)", 15 V4 (in) "Voltage Input 4. Select from 1.8V, 1.5V, ADJ or -ADJ. See Applications Information for details. Tie to V1 if unused and confi gured for positive voltage.", 16 V2 (in) "Voltage Input 2. Select from 3.3V, 3V or 2.5V. See Applications Information for details. The greater of V1, V2 is also VCC for the device. Bypass this pin to ground with a 0.1uF (or greater) capacitor. All status outputs are (See Datasheet)", 17 COMP4 (oc) "Comparator Output 4. Real-time logic output with weak 6uA pull-up to V2. Pulls high when V4 is above its reset threshold. May be pulled greater than V2 using external pull-up. Leave open if unused.", 18 COMP2 (oc) "Comparator Output 2. Real-time logic output with weak 6uA pull-up to V2. Pulls high when V2 is above its reset threshold. May be pulled greater than V2 using external pull-up. Leave open if unused.", 19 V6 (in) "Adjustable Voltage Input 6. High impedance comparator input with 0.5V typical threshold. See Applications Information for details. Tie to V1 if unused.", 20 COMP6 (oc) "Comparator Output 6. Real-time logic output with weak 6uA pull-up to V2. Pulls high when V6 is above its reset threshold. May be pulled greater than V2 using external pull-up. Leave open if unused."